# Altium footprint library PcbLib1.PcbLib: 4 footprints
Each footprint in its own frame and in the unit in brackets; x right, y up, seen from the top. Pads: shape width x height; smd on the part's side, far side on the other; paste and mask are expansions set on the pad; w line width, h text height; cw(c..) or ccw(c..) is an arc to the next point about the centre after c.
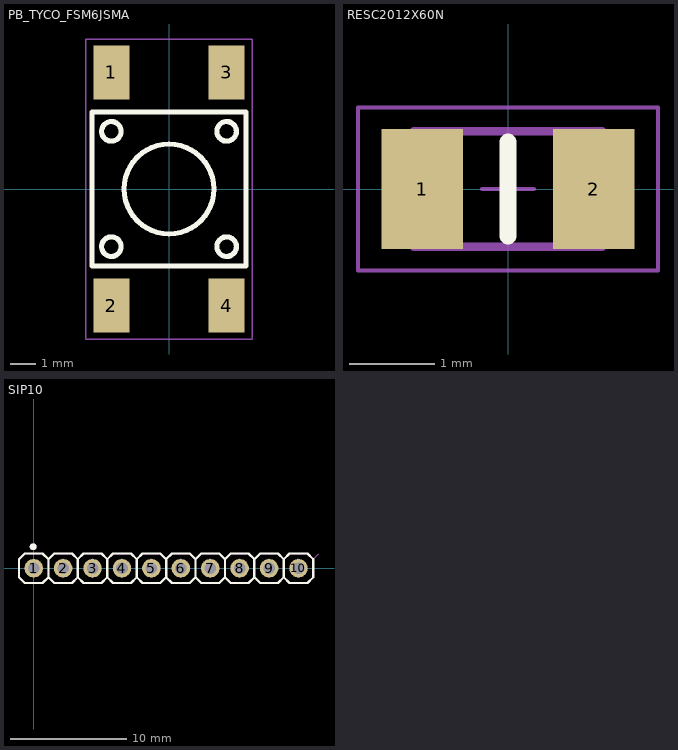
[diagram p0: the footprints below, top view; thin cyan lines are the x and y axes]

## PB_TYCO_FSM6JSMA [mm] "Body 6mm x 6mm, Surface Mount Tactile Switches, TYCO FSM6JSMA Series"
height 7.11
pads (4):
  rect 1.4x2.1 smd: 1(-2.25,4.55) 2(-2.25,-4.55) 3(2.25,4.55) 4(2.25,-4.55)
Top Overlay:
  circle w0.2: c0,0 r1.753
  circle w0.2: c2.248,2.248 r0.381
  circle w0.2: c2.248,-2.248 r0.381
  circle w0.2: c-2.248,2.248 r0.381
  circle w0.2: c-2.248,-2.248 r0.381
  lines w0.2: -3,-3 -3,3 3,3 3,-3 -3,-3
Mechanical 14:
  circle w0.1: c0,0 r1.753
  circle w0.1: c2.248,2.248 r0.381
  circle w0.1: c2.248,-2.248 r0.381
  circle w0.1: c-2.248,2.248 r0.381
  circle w0.1: c-2.248,-2.248 r0.381
  lines w0.1: -3,-3 -3,3 3,3 3,-3 -3,-3
Mechanical 15:
  lines w0.05: -3.25,-5.85 -3.25,5.85 3.25,5.85 3.25,-5.85 -3.25,-5.85
3D body "PB_TYCO_FSM6JSMA.stp": height 7.11, standoff 0, extent -3,-5 3,5

## PCBComponent_1 - duplicate [mm]

## RESC2012X60N [mm] "Chip Resistor, EIA 0805, Metric 2012, Body 2.0x1.2mm, IPC Medium Density"
height 0.6
pads (2):
  rect 0.95x1.4 smd: 1(-1,0) 2(1,0)
Top Overlay:
  lines w0.2: 0,-0.55 0,0.55
Mechanical 14:
  lines w0.1: -1.1,0.675 -1.1,-0.675 1.1,-0.675 1.1,0.675 ; -1.1,0.675 1.1,0.675
Mechanical 15:
  lines w0.05: -0.3,0 0.3,0 ; 0,-0.3 0,0.3 ; -1.75,-0.95 -1.75,0.95 1.75,0.95 1.75,-0.95 -1.75,-0.95
3D body "RESC2012X60N.stp": height 0.6, standoff 0, extent -1.1,-0.675 1.1,0.675

## SIP10 [mm] "10 Contact 2.54mm Pitch Single-In-Line Header Strip - Top Pin Ø0.46mm - Bottom Pin Ø0.69mm"
height 7.43
pads (10):
  round 1.6 hole 1: 1(0,0) 2(2.54,0) 3(5.08,0) 4(7.62,0) 5(10.16,0) 6(12.7,0) 7(15.24,0) 8(17.78,0) 9(20.32,0) 10(22.86,0)
Top Overlay:
  circle w0.3: c-0.045,1.855 r0.15
  lines w0.2: 1.27,-0.77 1.77,-1.27 3.31,-1.27 3.81,-0.77 ; 1.27,-0.77 1.27,0.77 ; 1.27,-0.77 1.27,0.77 ; 1.27,-0.77 0.77,-1.27 -0.77,-1.27 -1.27,-0.77 -1.27,0.77 -0.77,1.27 0.77,1.27 1.27,0.77 ; 1.27,0.77 1.77,1.27 3.31,1.27 3.81,0.77 ; 3.81,-0.77 4.31,-1.27 5.85,-1.27 6.35,-0.77 ; 3.81,-0.77 3.81,0.77 ; 3.81,-0.77 3.81,0.77 ; 3.81,0.77 4.31,1.27 5.85,1.27 6.35,0.77 ; 6.35,-0.77 6.85,-1.27 8.39,-1.27 8.89,-0.77 ; 6.35,-0.77 6.35,0.77 ; 6.35,-0.77 6.35,0.77 ; 6.35,0.77 6.85,1.27 8.39,1.27 8.89,0.77 ; 8.89,-0.77 9.39,-1.27 10.93,-1.27 11.43,-0.77 ; 8.89,-0.77 8.89,0.77 ; 8.89,-0.77 8.89,0.77 ; 8.89,0.77 9.39,1.27 10.93,1.27 11.43,0.77 ; 11.43,-0.77 11.93,-1.27 13.47,-1.27 13.97,-0.77 ; 11.43,-0.77 11.43,0.77 ; 11.43,-0.77 11.43,0.77 ; 11.43,0.77 11.93,1.27 13.47,1.27 13.97,0.77 ; 13.97,-0.77 14.47,-1.27 16.01,-1.27 16.51,-0.77 ; 13.97,-0.77 13.97,0.77 ; 13.97,-0.77 13.97,0.77 ; 13.97,0.77 14.47,1.27 16.01,1.27 16.51,0.77 ; 16.51,-0.77 17.01,-1.27 18.55,-1.27 19.05,-0.77 ; 16.51,-0.77 16.51,0.77 ; 16.51,-0.77 16.51,0.77 ; 16.51,0.77 17.01,1.27 18.55,1.27 19.05,0.77 ; 19.05,-0.77 19.05,0.77 ; 19.05,-0.77 19.55,-1.27 21.09,-1.27 21.59,-0.77 ; 19.05,-0.77 19.05,0.77 ; 19.05,0.77 19.55,1.27 21.09,1.27 21.59,0.77 ; 21.59,-0.77 21.59,0.77 ; 21.59,-0.77 22.09,-1.27 23.63,-1.27 24.13,-0.77 ; 21.59,-0.77 21.59,0.77 ; 21.59,0.77 22.09,1.27 23.63,1.27 24.13,0.77 ; 24.13,-0.77 24.13,0.77 ; 24.13,-0.77 24.13,0.77
Mechanical 8:
  lines w0.1: -0.8,0 0,0 ; 0,-0.8 0,0 ; 0,0.8 0,0 ; 0.8,0 0,0 ; 1.74,0 2.54,0 ; 2.54,-0.8 2.54,0 ; 2.54,0.8 2.54,0 ; 3.34,0 2.54,0 ; 4.28,0 5.08,0 ; 5.08,-0.8 5.08,0 ; 5.08,0.8 5.08,0 ; 5.88,0 5.08,0 ; 6.82,0 7.62,0 ; 7.62,-0.8 7.62,0 ; 7.62,0.8 7.62,0 ; 8.42,0 7.62,0 ; 9.36,0 10.16,0 ; 10.16,-0.8 10.16,0 ; 10.16,0.8 10.16,0 ; 10.96,0 10.16,0 ; 11.9,0 12.7,0 ; 12.7,-0.8 12.7,0 ; 12.7,0.8 12.7,0 ; 13.5,0 12.7,0 ; 14.44,0 15.24,0 ; 15.24,-0.8 15.24,0 ; 15.24,0.8 15.24,0 ; 16.04,0 15.24,0 ; 16.98,0 17.78,0 ; 17.78,-0.8 17.78,0 ; 17.78,0.8 17.78,0 ; 18.58,0 17.78,0 ; 19.52,0 20.32,0 ; 20.32,-0.8 20.32,0 ; 20.32,0.8 20.32,0 ; 21.12,0 20.32,0 ; 22.06,0 22.86,0 ; 22.86,-0.8 22.86,0 ; 22.86,0.8 22.86,0 ; 23.66,0 22.86,0
Mechanical 14:
  circle w0.3: c-0.045,1.855 r0.15
  lines w0.1: 24.63,1.27 24.13,0.77 ; 1.27,-0.77 1.77,-1.27 3.31,-1.27 3.81,-0.77 ; 1.27,-0.77 1.27,0.77 ; 1.27,-0.77 1.27,0.77 ; 1.27,-0.77 0.77,-1.27 -0.77,-1.27 -1.27,-0.77 -1.27,0.77 -0.77,1.27 0.77,1.27 1.27,0.77 ; 1.27,0.77 1.77,1.27 3.31,1.27 3.81,0.77 ; 3.81,-0.77 4.31,-1.27 5.85,-1.27 6.35,-0.77 ; 3.81,-0.77 3.81,0.77 ; 3.81,-0.77 3.81,0.77 ; 3.81,0.77 4.31,1.27 5.85,1.27 6.35,0.77 ; 6.35,-0.77 6.85,-1.27 8.39,-1.27 8.89,-0.77 ; 6.35,-0.77 6.35,0.77 ; 6.35,-0.77 6.35,0.77 ; 6.35,0.77 6.85,1.27 8.39,1.27 8.89,0.77 ; 8.89,-0.77 9.39,-1.27 10.93,-1.27 11.43,-0.77 ; 8.89,-0.77 8.89,0.77 ; 8.89,-0.77 8.89,0.77 ; 8.89,0.77 9.39,1.27 10.93,1.27 11.43,0.77 ; 11.43,-0.77 11.93,-1.27 13.47,-1.27 13.97,-0.77 ; 11.43,-0.77 11.43,0.77 ; 11.43,-0.77 11.43,0.77 ; 11.43,0.77 11.93,1.27 13.47,1.27 13.97,0.77 ; 13.97,-0.77 14.47,-1.27 16.01,-1.27 16.51,-0.77 ; 13.97,-0.77 13.97,0.77 ; 13.97,-0.77 13.97,0.77 ; 13.97,0.77 14.47,1.27 16.01,1.27 16.51,0.77 ; 16.51,-0.77 17.01,-1.27 18.55,-1.27 19.05,-0.77 ; 16.51,-0.77 16.51,0.77 ; 16.51,-0.77 16.51,0.77 ; 16.51,0.77 17.01,1.27 18.55,1.27 19.05,0.77 ; 19.05,-0.77 19.05,0.77 ; 19.05,-0.77 19.55,-1.27 21.09,-1.27 21.59,-0.77 ; 19.05,-0.77 19.05,0.77 ; 19.05,0.77 19.55,1.27 21.09,1.27 21.59,0.77 ; 21.59,-0.77 21.59,0.77 ; 21.59,-0.77 22.09,-1.27 23.63,-1.27 24.13,-0.77 ; 21.59,-0.77 21.59,0.77 ; 21.59,0.77 22.09,1.27 23.63,1.27 24.13,0.77 ; 24.13,-0.77 24.13,0.77 ; 24.13,-0.77 24.13,0.77
3D body "hdr-1x10th_2.54_25x13.step": height 4.5, standoff -3.3, extent -1.27,-10 24.13,2.54